# EAGLE library part TPS56*209 (library bschulz)
TPS563209/TPS562209 - High Efficiency Synchronous Boost Converter Characteristics: Vin: 4.5V ~ 17V Vout: 0.76V ~ 7V Output Current (max): 2A IQ: 650μA (typ) Operating Temperature: -40°C to 85°C Digikey: 296-37302-1-ND ( <https://www.digikey.com/product-detail/en/texas-instruments/TPS562209DDCT/296-37302-1-ND/4747946>
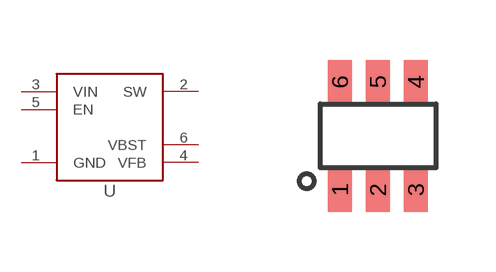
[diagram p127: symbol with the pads of DDC_R-PDSO-G6; footprint DDC_R-PDSO-G6]

Designator prefix U

## TPS56209 (DIGIKEY: 296-37302-1-ND; DISP: TPS562209; MF: TI; MPN: TPS562209DDCT)  [DDC_R-PDSO-G6]
1  GND  pwr
2  SW  pwr
3  VIN  pwr
4  VFB  in
5  EN  in
6  VBST  pas

## Footprint DDC_R-PDSO-G6 (pad centres in mm)
smd 0.6 x 1.1: 1 -0.95,-1.35; 2 0,-1.35; 3 0.95,-1.35; 4 0.95,1.35; 5 0,1.35; 6 -0.95,1.35